# Altium schematic symbol library ap-pam.SchLib: 19 symbols
Pins are listed as number, name and electrical type; pins without a type are passive.

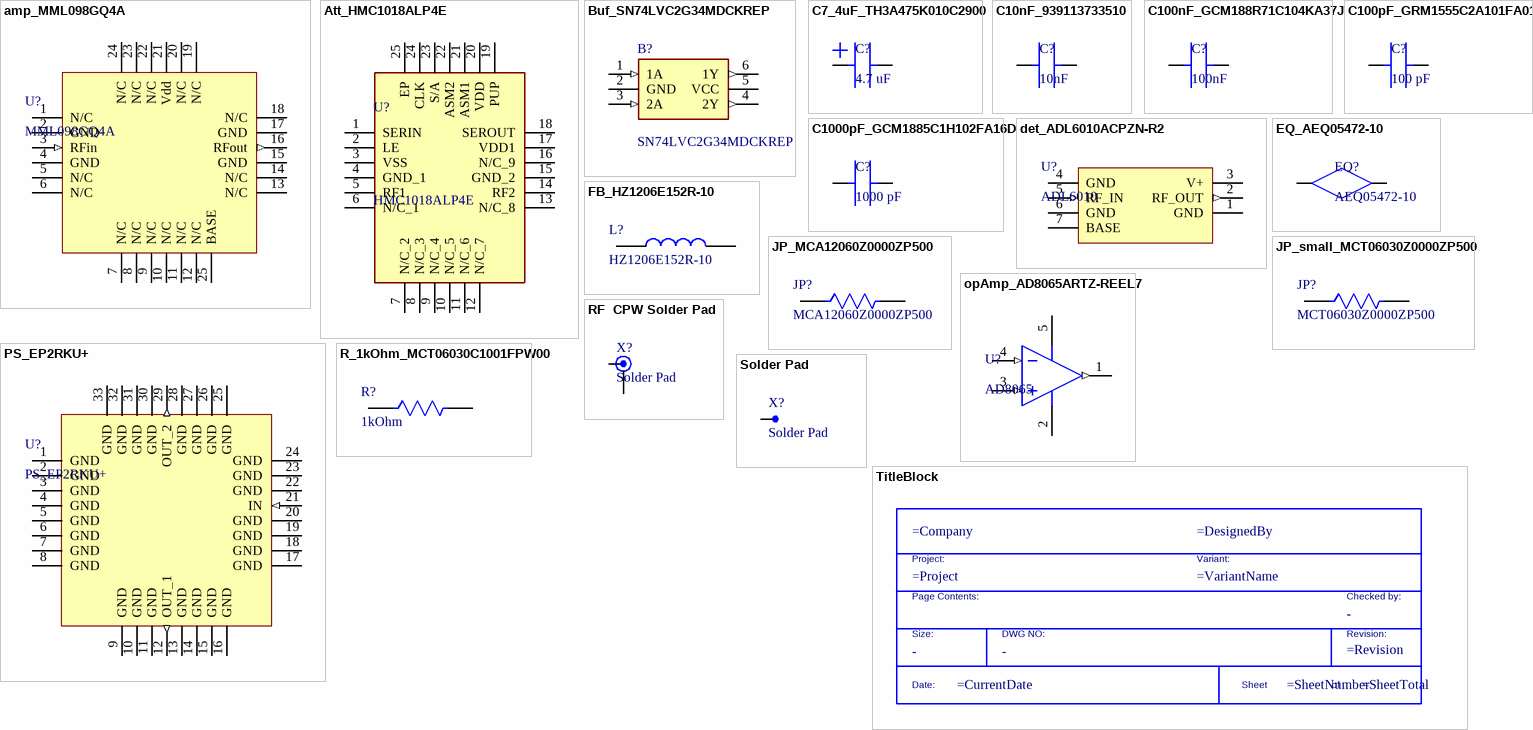
[diagram p0: symbols amp_MML098GQ4A to TitleBlock]

## amp_MML098GQ4A
designator U?, comment MML098GQ4A
Low Noise Amplifier / Low current consumption / Low noise figure / Pb-free RoHS compliant QFN package / Ultra wideband performance / Positive bias / Ready for Space Qualification; Frequency (GHz): 0.05-20.00; Gain (dB): 23.00; Noise Figure (dB): 2.3; Output P1dB (dBm): 12.00; Voltage (VDC): 5.0; Current (mA): 57; Manufacturer Part Number: MML098GQ4A
footprint amp_MML098GQ4A
pins: 1 N/C, 2 GND (power), 3 RFin (in), 4 GND (power), 5 N/C, 6 N/C, 7 N/C, 8 N/C, 9 N/C, 10 N/C, 11 N/C, 12 N/C, 13 N/C, 14 N/C, 15 GND (power), 16 RFout (out), 17 GND (power), 18 N/C, 19 N/C, 20 N/C, 21 Vdd (power), 22 N/C, 23 N/C, 24 N/C, 25 BASE (power)

## Att_HMC1018ALP4E
designator U?, comment HMC1018ALP4E
Attenuators Attenuators; Manufacturer_Name: Analog Devices; Geometry.Height: 1mm; Mouser Price/Stock: https://www.mouser.co.uk/ProductDetail/Analog-Devices/HMC1018ALP4E?qs=XflvcvBPbgW0VxFFfcxVBA%3D%3D; Datasheet Link: https://www.analog.com/media/en/technical-documentation/data-sheets/hmc1018a.pdf; Manufacturer Part Number: HMC1018ALP4E; Mouser Part Number: 584-HMC1018ALP4E
footprint QFN50P400X400X100-25N
footprint HMC101018ALPE
footprint Att_HMC101018ALPE
pins: 1 SERIN, 2 LE, 3 VSS, 4 GND_1, 5 RF1, 6 N/C_1, 7 N/C_2, 8 N/C_3, 9 N/C_4, 10 N/C_5, 11 N/C_6, 12 N/C_7, 13 N/C_8, 14 RF2, 15 GND_2, 16 N/C_9, 17 VDD1, 18 SEROUT, 19 PUP, 20 VDD, 21 ASM1, 22 ASM2, 23 S/A, 24 CLK, 25 EP

## Buf_SN74LVC2G34MDCKREP
designator B?, comment SN74LVC2G34MDCKREP
Enhanced Product Dual Buffer Gate; Manufacturer_Name: Texas Instruments; Geometry.Height: 1.1mm; Mouser Part Number: 595-SN74L2G34MDCKREP; Mouser Price/Stock: https://www.mouser.co.uk/ProductDetail/Texas-Instruments/SN74LVC2G34MDCKREP?qs=l4wu3mKjyfmQ87%252BWHVxJDg%3D%3D; Datasheet Link: https://datasheet.datasheetarchive.com/originals/distributors/Datasheets-SFU2/DSASFU100028688.pdf; Manufacturer Part Number: SN74LVC2G34MDCKREP
footprint SOT65P210X110-6N
footprint buf_SN74LVC2G34MDCKREP
pins: 1 1A (in), 2 GND, 3 2A (in), 4 2Y (out), 5 VCC, 6 1Y (out)

## C7_4uF_TH3A475K010C2900
designator C?, comment 4.7 uF
Tantalum Capacitor, Polarized, Tantalum (dry/solid), 10V, 10% +Tol, 10% -Tol, 4.7uF, Surface Mount, 1306; Manufacturer: Vishay Sprague; Manufacturer Part Number: TH3A475K010C2900; ESR (Equivalent Series Resistance): 2.9R; Leakage Current: 500nA; Ripple Current: 160mA; Tan Delta: 0.06; Reference Standard: AEC-Q200; Supplier: Future Electronics; Supplier Part Number: 4924098; RoHS: Yes; Category: Tantalum Capacitors; Stock: 2000; Pricing: 2000=0.178, 4000=0.175, 6000=0.173, 8000=0.171, 10000=0.166 (USD); Mounting Technology: Surface Mount; Pins: 2; Dielectric Material: Tantalum; Package Shape: Rectangular; Case/Package: 1206; Terminal Finish: Tin; Min Operating Temperature: -55°C; Max Operating Temperature: 150°C; JESD-609 Code: e3; Polarity: Polarized; Value: 4.7uF; Capacitor Type: Tantalum; Tolerance  (fill in as +-): 10%; Package Style: SMTMeter; Packaging: Tape and Reel; Tolerance (fill in as +-): 10%; Rated DC Voltage (URdc): 10V; Termination: J BEND; Length: 3.2mm; Width: 1.6mm; Height: 1.6mm; Reach SVHC Compliant: Yes; RoHS Compliant: Yes; ComponentLink1URL: https://datasheet.ciiva.com:443/pdfs/VipMasterIC/IC/VISH/VISH-S-A0010085390/VISH-S-A0010085390-1.pdf?src-supplier=IHS+Markit; ComponentLink1Description: https://datasheet.ciiva.com:443/pdfs/VipMasterIC/IC/VISH/VISH-S-A0010085390/VISH-S-A0010085390-1.pdf?src-supplier=IHS+Markit; ComponentLink2URL: https://datasheet.ciiva.com/268/th3-268785.pdf?src-supplier=Digikey; ComponentLink2Description: https://datasheet.ciiva.com/268/th3-268785.pdf?src-supplier=Digikey; ComponentLink3URL: https://datasheet.ciiva.com/16360/th3-16360891.pdf?src-supplier=Future+Electronics; ComponentLink3Description: https://datasheet.ciiva.com/16360/th3-16360891.pdf?src-supplier=Future+Electronics
footprint C4_7uF
pins: 1 +, 2

## C10nF_939113733510
designator C?, comment 10nF
Manufacturer: Murata; Manufacturer Part Number: 939113733510; Supplier: Mouser; Supplier Part Number: 961-939113733510; RoHS: No; Stock: 402; Pricing: 1000=3.63, 10000=3.49 (USD)
footprint C10nF
pins: 1, 2

## C100nF_GCM188R71C104KA37J
designator C?, comment 100nF
Ceramic Capacitor, Multilayer, Ceramic, 16V, 10% +Tol, 10% -Tol, X7R, 15% TC, 0.1uF, Surface Mount, 0603; Manufacturer: Murata; Manufacturer Part Number: GCM188R71C104KA37J; Multilayer: Yes; Reference Standard: AEC-Q200; Supplier: Mouser; Supplier Part Number: 81-GCM188R71C104KA7J; RoHS: Yes; Category: Ceramic Capacitors; Stock: 1116664; Pricing: 1=0.17, 10=0.097, 50=0.097, 100=0.063, 1000=0.044, 10000=0.031 (USD); Mounting Technology: Surface Mount; Pins: 2; Dielectric Material: Ceramic; Package Shape: Rectangular; Case/Package: 0603; Terminal Finish: Nickel; Min Operating Temperature: -55°C; Max Operating Temperature: 125°C; JESD-609 Code: e3; Value: 100nF; Capacitor Type: Ceramic; Tolerance  (fill in as +-): 10%; Package Style: SMTMeter; Packaging: Tape and Reel; Tolerance (fill in as +-): 10%; Rated DC Voltage (URdc): 16V; Temperature Characteristics Code: X7R; Termination: Wraparound; Length: 1.6mm; Width: 0.8mm; Height: 0.9mm; Reach SVHC Compliant: Yes; RoHS Compliant: Yes; ComponentLink1URL: https://datasheet.ciiva.com:443/pdfs/VipMasterIC/IC/MURE/MURE-S-A0004370842/MURE-S-A0004371613-1.pdf?src-supplier=IHS+Markit; ComponentLink1Description: https://datasheet.ciiva.com:443/pdfs/VipMasterIC/IC/MURE/MURE-S-A0004370842/MURE-S-A0004371613-1.pdf?src-supplier=IHS+Markit; ComponentLink2URL: https://datasheet.ciiva.com/18183/getdatasheetpartid-140967-18183600.pdf?src-supplier=Verical; ComponentLink2Description: https://datasheet.ciiva.com/18183/getdatasheetpartid-140967-18183600.pdf?src-supplier=Verical; ComponentLink3URL: https://datasheet.ciiva.com/29540/product-29540843.pdf?src-supplier=Digikey; ComponentLink3Description: https://datasheet.ciiva.com/29540/product-29540843.pdf?src-supplier=Digikey; ComponentLink4URL: https://datasheet.ciiva.com/29540/product-29540844.pdf?src-supplier=Digikey; ComponentLink4Description: https://datasheet.ciiva.com/29540/product-29540844.pdf?src-supplier=Digikey; ComponentLink5URL: https://datasheet.ciiva.com/29540/product-29540842.pdf?src-supplier=Digikey; ComponentLink5Description: https://datasheet.ciiva.com/29540/product-29540842.pdf?src-supplier=Digikey
footprint C100pF_C100nF
footprint C1000pF__C100nF
pins: 1, 2

## C100pF_GRM1555C2A101FA01D
designator C?, comment 100 pF
Multilayer Ceramic Capacitors MLCC - SMD/SMT 100 pF 100 VDC 1% 0402 C0G (NP0); Manufacturer: Murata; Manufacturer Part Number: GRM1555C2A101FA01D; Supplier: Mouser; Supplier Part Number: 81-GRM1555C2A11FA1D; RoHS: No; Stock: 21646; Pricing: 1=0.18, 10=0.119, 50=0.119, 100=0.06, 1000=0.039, 10000=0.035 (USD)
footprint C100pF
footprint C100pF_C100nF
footprint C100pF
pins: 1, 2

## C1000pF_GCM1885C1H102FA16D
designator C?, comment 1000 pF
Ceramic Capacitor, Multilayer, Ceramic, 50V, 1% +Tol, 1% -Tol, C0G, 30ppm/Cel TC, 0.001uF, Surface Mount, 0603; Manufacturer: Murata; Manufacturer Part Number: GCM1885C1H102FA16D; Value: 1nF; Multilayer: Yes; Reference Standard: AEC-Q200; Supplier: Mouser; Supplier Part Number: 81-GCM1885C1H102FA6D; RoHS: Yes; Category: Ceramic Capacitors; Stock: 27229; Pricing: 1=0.35, 10=0.229, 50=0.229, 100=0.138, 1000=0.092, 10000=0.074 (USD); Mounting Technology: Surface Mount; Pins: 2; Dielectric Material: Ceramic; Package Shape: Rectangular; Case/Package: 0603; Min Operating Temperature: -55°C; Max Operating Temperature: 125°C; Capacitor Type: Ceramic; Tolerance  (fill in as +-): 1%; Packaging: Tape and Reel; Tolerance (fill in as +-): 1%; Rated DC Voltage (URdc): 50V; Temperature Characteristics Code: C0G; Termination: Wraparound; Reach SVHC Compliant: Yes; RoHS Compliant: Yes; ComponentLink1URL: https://datasheet.ciiva.com:443/pdfs/VipMasterIC/IC/MURE/MURE-S-A0004370842/MURE-S-A0004372260-1.pdf?src-supplier=IHS+Markit; ComponentLink1Description: https://datasheet.ciiva.com:443/pdfs/VipMasterIC/IC/MURE/MURE-S-A0004370842/MURE-S-A0004372260-1.pdf?src-supplier=IHS+Markit
footprint C1000pF
footprint C1000pF__C100nF
pins: 1, 2

## det_ADL6010ACPZN-R2
designator U?, comment ADL6010
Linear Detector, 500MHz Min, 43500MHz Max, 20dBm Input Power-Max; Manufacturer: Analog Devices; Manufacturer Part Number: ADL6010ACPZN-R2; Supplier: Mouser; Supplier Part Number: 584-ADL6010ACPZN-R2; RoHS: Yes; Category: RF Semiconductors and Devices; Stock: 808; Pricing: 1=162.98, 10=153.49, 50=153.49, 100=153.49, 1000=153.49, 10000=153.49 (USD); RF/Microwave Device Type: LINEAR DETECTOR; Reach SVHC Compliant: Yes; RoHS Compliant: Yes; ComponentLink1URL: https://datasheet.ciiva.com:443/pdfs/VipMasterIC/IC/ANDI/ANDI-S-A0008998713/ANDI-S-A0008998713-1.pdf?src-supplier=IHS+Markit; ComponentLink1Description: https://datasheet.ciiva.com:443/pdfs/VipMasterIC/IC/ANDI/ANDI-S-A0008998713/ANDI-S-A0008998713-1.pdf?src-supplier=IHS+Markit; ComponentLink2URL: https://datasheet.ciiva.com/29985/adl6010-29985760.pdf?src-supplier=Avnet; ComponentLink2Description: https://datasheet.ciiva.com/29985/adl6010-29985760.pdf?src-supplier=Avnet
footprint Det_ADL6010ACPZN-R2
pins: 1 GND, 2 RF_OUT (out), 3 V+, 4 GND, 5 RF_IN (in), 6 GND, 7 BASE

## EQ_AEQ05472-10
designator EQ?, comment AEQ05472-10
Rf Filter Gain Equalizer 2SMD; Manufacturer: Knowles Dielectric Labs; Supplier: Digikey; Supplier Part Number: 1761-1006-ND; Manufacturer Part Number: AEQ05472-10; RoHS: Yes; Stock: 390; Pricing: 10=7.145, 20=6.5195, 30=6.203, 50=5.8498, 70=5.64214, 100=5.4415, 250=5.00556, 500=4.7401, 1000=4.51981 (USD); ComponentLink1URL: http://www.mouser.com/ds/2/110/Dielectriclaboratories_EW_Series-340573.pdf?src-supplier=Mouser; ComponentLink1Description: http://www.mouser.com/ds/2/110/Dielectriclaboratories_EW_Series-340573.pdf?src-supplier=Mouser; ComponentLink2URL: http://www.knowlescapacitors.com/getattachment/69df7735-7ed2-4c4f-903b-a99acda4fa2d/Gain-Equalizers.aspx?src-supplier=Digikey; ComponentLink2Description: http://www.knowlescapacitors.com/getattachment/69df7735-7ed2-4c4f-903b-a99acda4fa2d/Gain-Equalizers.aspx?src-supplier=Digikey
footprint EQ_AEQ05472
pins: 1, 2

## FB_HZ1206E152R-10
designator L?, comment HZ1206E152R-10
Ferrite Chip, 1 Function(s), 0.5A, 2 Pin(s); Manufacturer: Laird; DC Resistance-Max: 300mR; Clock Frequency: 50MHz; Channels: 1; Output Impedance: 1.5kR; Current Rating: 500mA; Supplier: Digikey; Supplier Part Number: 240-2548-1-ND; Manufacturer Part Number: HZ1206E152R-10; RoHS: Yes; Category: Ferrite Beads and Chips; Stock: 35353; Pricing: 1=0.24, 10=0.164, 25=0.142, 50=0.127, 100=0.1134, 250=0.09704, 500=0.08584, 1000=0.07554 (USD); Mounting Technology: Surface Mount; Material: Ferrite; Case Code: 1206; Terminal Finish: Nickel; Min Operating Temperature: -55°C; Max Operating Temperature: 125°C; JESD-609 Code: e3; Construction: Chip Bead; Filter Type: FERRITE CHIP; Min Frequency: 50MHz; Manufacturer Series: HZ1206E152R; Packaging: Tape and Reel; Series: HZ1206E152R-10; Length: 3.2mm; Width: 1.6mm; Height: 1.1mm; Reach SVHC Compliant: Yes; RoHS Compliant: Yes; ComponentLink1URL: https://datasheet.ciiva.com:443/pdfs/VipMasterIC/IC/STWD/STWDS00487/STWDS00487-1.pdf?src-supplier=IHS+Markit; ComponentLink1Description: https://datasheet.ciiva.com:443/pdfs/VipMasterIC/IC/STWD/STWDS00487/STWDS00487-1.pdf?src-supplier=IHS+Markit; ComponentLink2URL: https://datasheet.ciiva.com/1013/hz1206e152r-10-b-1013323.pdf?src-supplier=Digikey; ComponentLink2Description: https://datasheet.ciiva.com/1013/hz1206e152r-10-b-1013323.pdf?src-supplier=Digikey; ComponentLink3URL: https://datasheet.ciiva.com/22622/1685976-22622840.pdf?src-supplier=Element14; ComponentLink3Description: https://datasheet.ciiva.com/22622/1685976-22622840.pdf?src-supplier=Element14; ComponentLink4URL: https://datasheet.ciiva.com/12396/hz1206e152r-10new-201540-12396726.pdf?src-supplier=Mouser; ComponentLink4Description: https://datasheet.ciiva.com/12396/hz1206e152r-10new-201540-12396726.pdf?src-supplier=Mouser
footprint FB_HZ1206E152R-10
pins: 1, 2

## JP_MCA12060Z0000ZP500
designator JP?, comment MCA12060Z0000ZP500
Fixed Resistor, Thin Film, 0.25W, 0ohm, Surface Mount, 1206; Manufacturer: Vishay; Power: 250mW; Rated Temperature: 70°C; Value: 0R; Package Height: 0.55mm; Package Length: 3.2mm; Package Width: 1.6mm; Reference Standard: CECC40401-801; Supplier: Mouser; Supplier Part Number: 594-MCA12060Z0000ZP5; Manufacturer Part Number: MCA12060Z0000ZP500; RoHS: Yes; Category: Chip SMD Resistors; Stock: 3183; Pricing: 1=0.44, 10=0.318, 50=0.245, 100=0.218, 1000=0.132, 10000=0.117 (USD); Mounting Technology: Surface Mount; Pins: 2; Package Shape: Rectangular; Case/Package: 1206; Terminal Finish: Nickel; Min Operating Temperature: -55°C; Max Operating Temperature: 125°C; JESD-609 Code: e3; Resistor Type: FIXED RESISTOR; Construction: Rectangular; Packaging: Tape and Reel; Technology: THIN FILM; Termination: Wraparound; Reach SVHC Compliant: Yes; RoHS Compliant: Yes
footprint JP_MCA12060Z0000ZP500
pins: 1, 2

## JP_small_MCT06030Z0000ZP500
designator JP?, comment MCT06030Z0000ZP500
Fixed Resistor, Thin Film, 0.1W, 0ohm, Surface Mount, 0603; Manufacturer: Vishay Beyschlag; Power: 100mW; Rated Temperature: 70°C; Value: 0R; Package Height: 0.45mm; Package Length: 1.55mm; Package Width: 0.85mm; Reference Standard: CECC40401-801; Supplier: Mouser; Supplier Part Number: 594-MCT06030Z0000ZP5; Manufacturer Part Number: MCT06030Z0000ZP500; RoHS: Yes; Category: Chip SMD Resistors; Stock: 102669; Pricing: 1=0.24, 10=0.09, 50=0.09, 100=0.063, 1000=0.04, 10000=0.028 (USD); Mounting Technology: Surface Mount; Pins: 2; Package Shape: Rectangular; Case/Package: 0603; Terminal Finish: Nickel; Min Operating Temperature: -55°C; Max Operating Temperature: 125°C; JESD-609 Code: e3; Resistor Type: FIXED RESISTOR; Construction: Rectangular; Packaging: Tape and Reel; Technology: THIN FILM; Termination: Wraparound; Reach SVHC Compliant: Yes; RoHS Compliant: Yes; ComponentLink1URL: https://datasheet.ciiva.com:443/pdfs/VipMasterIC/IC/VISH/VISH-S-A0002473667/VISH-S-A0002473667-1.pdf?src-supplier=IHS+Markit; ComponentLink1Description: https://datasheet.ciiva.com:443/pdfs/VipMasterIC/IC/VISH/VISH-S-A0002473667/VISH-S-A0002473667-1.pdf?src-supplier=IHS+Markit; ComponentLink2URL: https://datasheet.ciiva.com/48524/mc-pro-48524221.pdf?src-supplier=Avnet; ComponentLink2Description: https://datasheet.ciiva.com/48524/mc-pro-48524221.pdf?src-supplier=Avnet; ComponentLink3URL: https://datasheet.ciiva.com/8901/mc-pro-8901833.pdf?src-supplier=Avnet; ComponentLink3Description: https://datasheet.ciiva.com/8901/mc-pro-8901833.pdf?src-supplier=Avnet; ComponentLink4URL: https://datasheet.ciiva.com/8898/mc-pro-8898078.pdf?src-supplier=Avnet; ComponentLink4Description: https://datasheet.ciiva.com/8898/mc-pro-8898078.pdf?src-supplier=Avnet; ComponentLink5URL: https://datasheet.ciiva.com/2471/mc-pro-2471991.pdf?src-supplier=Digikey; ComponentLink5Description: https://datasheet.ciiva.com/2471/mc-pro-2471991.pdf?src-supplier=Digikey; ComponentLink6URL: https://datasheet.ciiva.com/2471/mc-pro-2471992.pdf?src-supplier=Digikey; ComponentLink6Description: https://datasheet.ciiva.com/2471/mc-pro-2471992.pdf?src-supplier=Digikey; ComponentLink7URL: https://datasheet.ciiva.com/2471/mc-pro-2471993.pdf?src-supplier=Digikey; ComponentLink7Description: https://datasheet.ciiva.com/2471/mc-pro-2471993.pdf?src-supplier=Digikey; ComponentLink8URL: https://datasheet.ciiva.com/16451/mc-pro-16451398.pdf?src-supplier=Future+Electronics; ComponentLink8Description: https://datasheet.ciiva.com/16451/mc-pro-16451398.pdf?src-supplier=Future+Electronics
footprint JP_small_MCT06030Z0000ZP500
footprint JP_R_MCT06030Z0000ZP500
pins: 1, 2

## opAmp_AD8065ARTZ-REEL7
designator U?, comment AD8065
Operational Amplifier, 1 Func, BIPolar, PDSO5; Manufacturer: Analog Devices; Manufacturer Part Number: AD8065ARTZ-REEL7; Package Body Material: Plastic; Bandwidth-Nom: 145MHz; Consumer IC Type: VIDEO AMPLIFIER; Number of Channels: 1; Max Supply Voltage: 12V; Min Supply Voltage: 2.5V; Time @ Peak Reflow Temperature-Max (s): 40s; Qualification Status: Not Qualified; Supplier: Mouser; Supplier Part Number: 584-AD8065ARTZ-R7; RoHS: Yes; Category: Amplifiers - Op Amps, Buffer, Instrumentation; Stock: 85532; Pricing: 1=6.36, 10=3.77, 50=3.77, 100=3.13, 1000=2.6, 10000=2.59 (USD); Case/Package: LSSOP; Pins: 5; Package Shape: Rectangular; Terminal Finish: Tin; Min Operating Temperature: -40°C; Max Operating Temperature: 85°C; JESD-609 Code: e3; JESD-30 Code: R-PDSO-G5; Moisture Sensitivity Level: 1; Channels: 1; Package Style: SMALL OUTLINE, LOW PROFILE, SHRINK PITCHMeter; Peak Reflow Temperature (Cel): 260°C; Surface Mount: Yes; Technology: BIPOLAR; Terminal Form: Gull Wing; Terminal Position: DUAL; Length: 2.9mm; Width: 1.6mm; Height - Seated (Max): 1.45mm; Terminal Pitch: 0.95mm; Temperature Grade: INDUSTRIAL; Reach SVHC Compliant: Yes; RoHS Compliant: Yes; ComponentLink1URL: https://datasheet.ciiva.com:443/pdfs/VipMasterIC/IC/ANDI/ANDI-S-A0007455537/ANDI-S-A0007455537-1.pdf?src-supplier=IHS+Markit; ComponentLink1Description: https://datasheet.ciiva.com:443/pdfs/VipMasterIC/IC/ANDI/ANDI-S-A0007455537/ANDI-S-A0007455537-1.pdf?src-supplier=IHS+Markit; ComponentLink2URL: https://datasheet.ciiva.com/1794/ad8065-8066-1794192.pdf?src-supplier=Digikey; ComponentLink2Description: https://datasheet.ciiva.com/1794/ad8065-8066-1794192.pdf?src-supplier=Digikey; ComponentLink3URL: https://datasheet.ciiva.com/46387/1906158-46387195.pdf?src-supplier=Element14; ComponentLink3Description: https://datasheet.ciiva.com/46387/1906158-46387195.pdf?src-supplier=Element14; ComponentLink4URL: https://datasheet.ciiva.com/8078/1906158-8078715.pdf?src-supplier=Element14; ComponentLink4Description: https://datasheet.ciiva.com/8078/1906158-8078715.pdf?src-supplier=Element14; ComponentLink5URL: https://datasheet.ciiva.com/28388/1906158-28388634.pdf?src-supplier=Element14; ComponentLink5Description: https://datasheet.ciiva.com/28388/1906158-28388634.pdf?src-supplier=Element14; ComponentLink6URL: https://datasheet.ciiva.com/1794/ad8065-8066-1794191.pdf?src-supplier=Digikey; ComponentLink6Description: https://datasheet.ciiva.com/1794/ad8065-8066-1794191.pdf?src-supplier=Digikey; ComponentLink7URL: https://datasheet.ciiva.com/1794/ad8065-8066-1794193.pdf?src-supplier=Digikey; ComponentLink7Description: https://datasheet.ciiva.com/1794/ad8065-8066-1794193.pdf?src-supplier=Digikey; ComponentLink8URL: https://datasheet.ciiva.com/2972/ad8065-8066-2972973.pdf?src-supplier=Avnet; ComponentLink8Description: https://datasheet.ciiva.com/2972/ad8065-8066-2972973.pdf?src-supplier=Avnet; ComponentLink9URL: https://datasheet.ciiva.com/15410/ad8065-8066-246489-15410250.pdf?src-supplier=Mouser; ComponentLink9Description: https://datasheet.ciiva.com/15410/ad8065-8066-246489-15410250.pdf?src-supplier=Mouser; ComponentLink10URL: https://datasheet.ciiva.com/48709/001248924-da-01-en-ic-opamp-v-ad8065artz-reel7-sot-23-5-adi-48709574.pdf?src-supplier=Conrad; ComponentLink10Description: https://datasheet.ciiva.com/48709/001248924-da-01-en-ic-opamp-v-ad8065artz-reel7-sot-23-5-adi-48709574.pdf?src-supplier=Conrad
footprint opAmp_AD8065ARTZ-REEL7 (SOT-23, 5-Leads, Body 2.9x1.6mm, Pitch 0.95mm, IPC Medium Density)
pins: 1 VOUT (out), 2 -VS (power), 3 +IN (in), 4 -IN (in), 5 +VS (power)

## PS_EP2RKU+
designator U?
Splitter And Combiner; Manufacturer: Mini-Circuits; Supplier: Digikey; Supplier Part Number: 3157-EP2RKU+CT-ND; Manufacturer Part Number: EP2RKU+; RoHS: Yes; Category: RF Semiconductors and Devices; Stock: 2184; Pricing: 1=33.39, 20=30.288, 50=29.1842, 100=28.9081, 200=27.99605 (USD); RoHS Compliant: Yes
footprint PS_EP2RKU+
pins: 1 GND, 2 GND, 3 GND, 4 GND, 5 GND, 6 GND, 7 GND, 8 GND, 9 GND, 10 GND, 11 GND, 12 OUT_1 (out), 13 GND, 14 GND, 15 GND, 16 GND, 17 GND, 18 GND, 19 GND, 20 GND, 21 IN (in), 22 GND, 23 GND, 24 GND, 25 GND, 26 GND, 27 GND, 28 GND, 29 OUT_2 (out), 30 GND, 31 GND, 32 GND, 33 GND

## R_1kOhm_MCT06030C1001FPW00
designator R?, comment 1kOhm
Fixed Resistor, Thin Film, 0.1W, 1000ohm, 75V, 1% +/-Tol, 50ppm/Cel, Surface Mount, 0603; Manufacturer: Vishay BCcomponents; Manufacturer Part Number: MCT06030C1001FPW00; Power: 100mW; Rated Temperature: 70°C; Value: 1kR; Temperature Coefficient (ppm/Cel): 50; Package Height: 0.45mm; Package Length: 1.55mm; Package Width: 0.85mm; Reference Standard: CECC40401-801; Supplier: Mouser; Supplier Part Number: 594-MCT06030C1001FPW; RoHS: Yes; Category: Chip SMD Resistors; Stock: 43742; Pricing: 1=0.1, 10=0.039, 50=0.039, 100=0.035, 1000=0.021, 10000=0.014 (USD); Mounting Technology: Surface Mount; Pins: 2; Package Shape: Rectangular; Case/Package: 0603; Terminal Finish: Nickel; Min Operating Temperature: -55°C; Max Operating Temperature: 125°C; Tolerance: 1%; JESD-609 Code: e3; Resistor Type: FIXED RESISTOR; Construction: Rectangular; Packaging: Tape and Reel; Technology: THIN FILM; Termination: Wraparound; Working Voltage: 75V; Reach SVHC Compliant: Yes; RoHS Compliant: Yes; ComponentLink1URL: https://datasheet.ciiva.com:443/pdfs/VipMasterIC/IC/VISH/VISH-S-A0002473667/VISH-S-A0002473667-1.pdf?src-supplier=IHS+Markit; ComponentLink1Description: https://datasheet.ciiva.com:443/pdfs/VipMasterIC/IC/VISH/VISH-S-A0002473667/VISH-S-A0002473667-1.pdf?src-supplier=IHS+Markit; ComponentLink2URL: http://components.arrow.com/part/dataview/43585914S9217422N4052?src-supplier=Arrow+Electronics; ComponentLink2Description: http://components.arrow.com/part/dataview/43585914S9217422N4052?src-supplier=Arrow+Electronics; ComponentLink3URL: https://datasheet.octopart.com/MCT06030C1001FPW00-Vishay-datasheet-81842982.pdf?src-supplier=Future+Electronics; ComponentLink3Description: https://datasheet.octopart.com/MCT06030C1001FPW00-Vishay-datasheet-81842982.pdf?src-supplier=Future+Electronics
footprint JP_R_MCT06030Z0000ZP500
pins: 1, 2

## RF  CPW Solder Pad
designator X?, comment Solder Pad
Solder pad for RF Coplanar Waveguide Rogers 4350B Thickness 0.020" Copper 1oz
footprint CPW Edge Connector
pins: 1, 2, 3

## Solder Pad
designator X?
Pad to solder wires to
footprint Solder Pad
pins: 1

## TitleBlock
designator *  (value not drawn)  (graphical)
Standard Title Block; DWG NO: -; Size: -; Checked by: -
text: Project:; Variant:; Page Contents:; Checked by:; Size:; DWG NO:; Revision:; Date:; Sheet; of